# EAGLE library part STM32G030C8T6 (library Labops_Lib_AH)
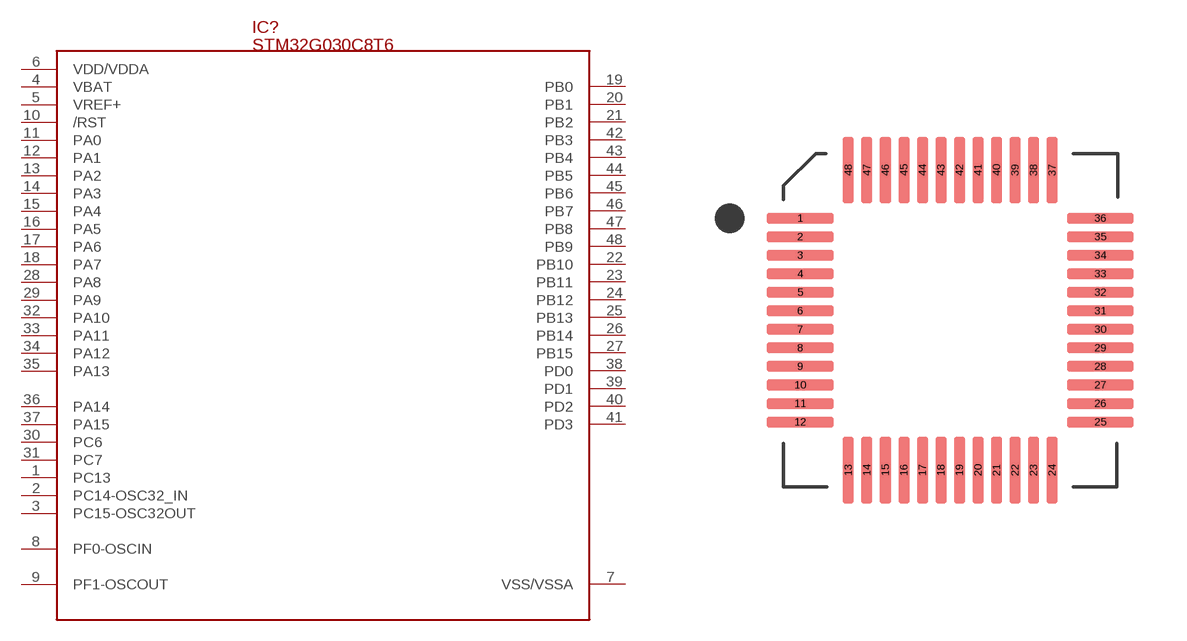
[diagram p87: symbol with the pads of LQFP48; footprint LQFP48]

Designator prefix IC?

## STM32G030C8T6  [LQFP48]
1  PC13
2  PC14-OSC32_IN
3  PC15-OSC32OUT
4  VBAT
5  VREF+
6  VDD/VDDA
7  VSS/VSSA
8  PF0-OSCIN
9  PF1-OSCOUT
10  /RST
11  PA0
12  PA1
13  PA2
14  PA3
15  PA4
16  PA5
17  PA6
18  PA7
19  PB0
20  PB1
21  PB2
22  PB10
23  PB11
24  PB12
25  PB13
26  PB14
27  PB15
28  PA8
29  PA9
30  PC6
31  PC7
32  PA10
33  PA11
34  PA12
35  PA13
36  PA14
37  PA15
38  PD0
39  PD1
40  PD2
41  PD3
42  PB3
43  PB4
44  PB5
45  PB6
46  PB7
47  PB8
48  PB9

## Footprint LQFP48 (pad centres in mm)
smd 1.8 x 0.3: 1 -4.05,2.75; 2 -4.05,2.25; 3 -4.05,1.75; 4 -4.05,1.25; 5 -4.05,0.75; 6 -4.05,0.25; 7 -4.05,-0.25; 8 -4.05,-0.75; 9 -4.05,-1.25; 10 -4.05,-1.75; 11 -4.05,-2.25; 12 -4.05,-2.75; 25 4.05,-2.75; 26 4.05,-2.25; 27 4.05,-1.75; 28 4.05,-1.25; 29 4.05,-0.75; 30 4.05,-0.25; 31 4.05,0.25; 32 4.05,0.75; 33 4.05,1.25; 34 4.05,1.75; 35 4.05,2.25; 36 4.05,2.75
smd 0.3 x 1.8: 13 -2.75,-4.05; 14 -2.25,-4.05; 15 -1.75,-4.05; 16 -1.25,-4.05; 17 -0.75,-4.05; 18 -0.25,-4.05; 19 0.25,-4.05; 20 0.75,-4.05; 21 1.25,-4.05; 22 1.75,-4.05; 23 2.25,-4.05; 24 2.75,-4.05; 37 2.75,4.05; 38 2.25,4.05; 39 1.75,4.05; 40 1.25,4.05; 41 0.75,4.05; 42 0.25,4.05; 43 -0.25,4.05; 44 -0.75,4.05; 45 -1.25,4.05; 46 -1.75,4.05; 47 -2.25,4.05; 48 -2.75,4.05